# Altium schematic symbol library 0402 Resistor.SchLib: 1 symbol
Pins are listed as number, name and electrical type; pins without a type are passive.

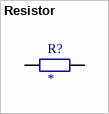
[diagram p0: symbol Resistor]

## Resistor
designator R?
CRG0402 1% 2K0; MF: {'manufacturer': u'TE Connectivity'}; MP: 4-1676480-2; Availability: Unavailable; Value: *; Package: None; Price: None
footprint 0402 Resistor
pins: 1, 2